# EAGLE library part DUMMY-QFN20 (library esbd-chips)
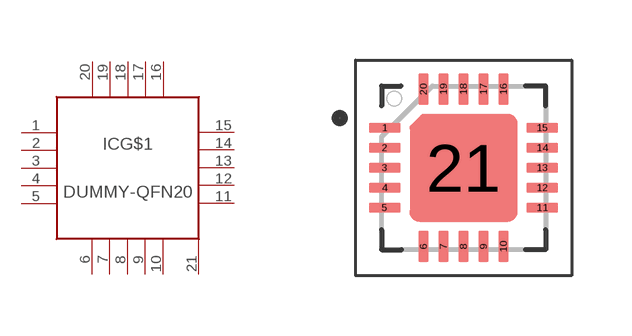
[diagram p20: symbol with the pads of QFN20_4.00X4.00MM; footprint QFN20_4.00X4.00MM]

Designator prefix IC; gates G$1=DUMMY_5-5-5-5 EP=PIN

## DUMMY-QFN20  [QFN20_4.00X4.00MM]
1  G$1:1  pas
2  G$1:2  pas
3  G$1:3  pas
4  G$1:4  pas
5  G$1:5  pas
6  G$1:6  pas
7  G$1:7  pas
8  G$1:8  pas
9  G$1:9  pas
10  G$1:10  pas
11  G$1:11  pas
12  G$1:12  pas
13  G$1:13  pas
14  G$1:14  pas
15  G$1:15  pas
16  G$1:16  pas
17  G$1:17  pas
18  G$1:18  pas
19  G$1:19  pas
20  G$1:20  pas
21  EP:1  pas

## Footprint QFN20_4.00X4.00MM (pad centres in mm)
https://www.analog.com/media/en/package-pcb-resources/package/pkg_pdf/ltc-legacy-qfn/QFN_20_05-08-1710.pdf
smd 0.79 x 0.26: 1 -1.97,1; 2 -1.97,0.5; 3 -1.97,0; 4 -1.97,-0.5; 5 -1.97,-1; 11 1.97,-1; 12 1.97,-0.5; 13 1.97,0; 14 1.97,0.5; 15 1.97,1
smd 0.26 x 0.79: 6 -1,-1.97; 7 -0.5,-1.97; 8 0,-1.97; 9 0.5,-1.97; 10 1,-1.97; 16 1,1.97; 17 0.5,1.97; 18 0,1.97; 19 -0.5,1.97; 20 -1,1.97
smd 2.15 x 2.05: 21 0,0